# Altium schematic symbol library lib_htx.SchLib: 5 symbols
Pins are listed as number, name and electrical type; pins without a type are passive.

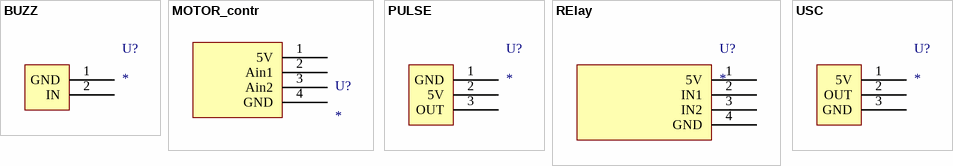
[diagram p0: symbols BUZZ to USC]

## BUZZ
designator U?
pins: 1 GND, 2 IN

## MOTOR_contr
designator U?
pins: 1 5V, 2 Ain1, 3 Ain2, 4 GND

## PULSE
designator U?
pins: 1 GND, 2 5V, 3 OUT

## RElay
designator U?
pins: 1 5V, 2 IN1, 3 IN2, 4 GND

## USC
designator U?
pins: 1 5V, 2 OUT, 3 GND